# EAGLE library part MEGA8L (library MEGA8L)
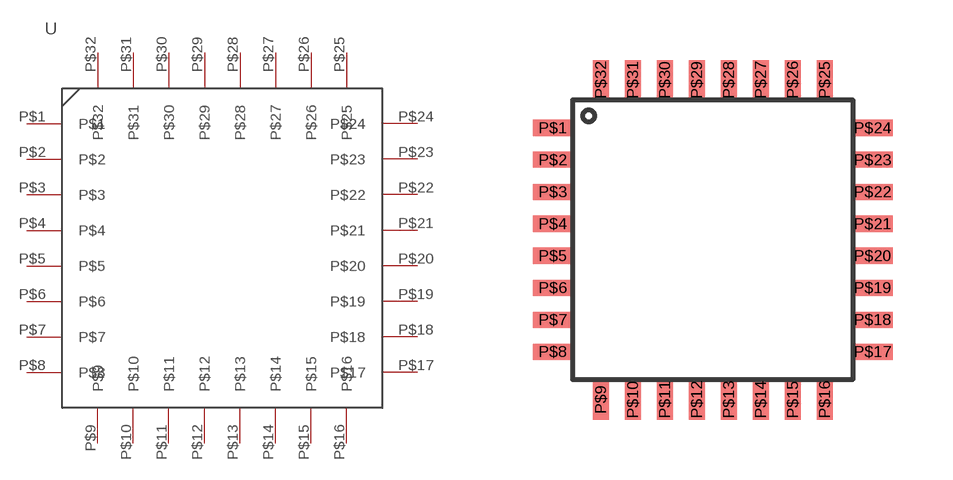
[diagram p0: symbol with the pads of TQFL-MEGA8L; footprint TQFL-MEGA8L]

Designator prefix -

## MEGA8L  [TQFL-MEGA8L]
P$1  P$1
P$2  P$2
P$3  P$3
P$4  P$4
P$5  P$5
P$6  P$6
P$7  P$7
P$8  P$8
P$9  P$9
P$10  P$10
P$11  P$11
P$12  P$12
P$13  P$13
P$14  P$14
P$15  P$15
P$16  P$16
P$17  P$17
P$18  P$18
P$19  P$19
P$20  P$20
P$21  P$21
P$22  P$22
P$23  P$23
P$24  P$24
P$25  P$25
P$26  P$26
P$27  P$27
P$28  P$28
P$29  P$29
P$30  P$30
P$31  P$31
P$32  P$32

## Footprint TQFL-MEGA8L (pad centres in mm)
smd 1 x 0.4: P$1 -3.7,2.9; P$2 -3.7,2.1; P$3 -3.7,1.3; P$4 -3.7,0.5; P$5 -3.7,-0.3; P$6 -3.7,-1.1; P$7 -3.7,-1.9; P$8 -3.7,-2.7; P$17 4.3,-2.7; P$18 4.3,-1.9; P$19 4.3,-1.1; P$20 4.3,-0.3; P$21 4.3,0.5; P$22 4.3,1.3; P$23 4.3,2.1; P$24 4.3,2.9
smd 0.4 x 1: P$9 -2.5,-3.9; P$10 -1.7,-3.9; P$11 -0.9,-3.9; P$12 -0.1,-3.9; P$13 0.7,-3.9; P$14 1.5,-3.9; P$15 2.3,-3.9; P$16 3.1,-3.9; P$25 3.1,4.1; P$26 2.3,4.1; P$27 1.5,4.1; P$28 0.7,4.1; P$29 -0.1,4.1; P$30 -0.9,4.1; P$31 -1.7,4.1; P$32 -2.5,4.1